# EAGLE library part AD5242 (library Batebit)
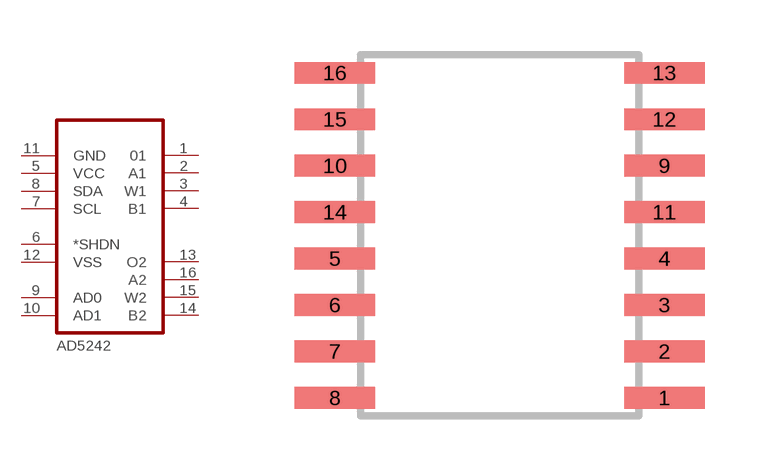
[diagram p19: symbol with the pads of SOIC16; footprint SOIC16]

Designator prefix -

## AD5242BRZ1M-ND  [SOIC16]
1  01
2  A1
3  W1
4  B1
5  VCC
6  *SHDN
7  SCL
8  SDA
9  AD0
10  AD1
11  GND
12  VSS
13  O2
14  B2
15  W2
16  A2

## Footprint SOIC16 (pad centres in mm)
16-Lead SOIC (R-16)
smd 2.2 x 0.6: 1 4.505,-4.445; 2 4.505,-3.175; 3 4.505,-1.905; 4 4.505,-0.635; 5 -4.505,-0.635; 6 -4.505,-1.905; 7 -4.505,-3.175; 8 -4.505,-4.445; 9 4.505,1.905; 10 -4.505,1.905; 11 4.505,0.635; 12 4.505,3.175; 13 4.505,4.445; 14 -4.505,0.635; 15 -4.505,3.175; 16 -4.505,4.445